# EAGLE library part MOLEX_MINIFIT-8 (library molex_mini-fit)
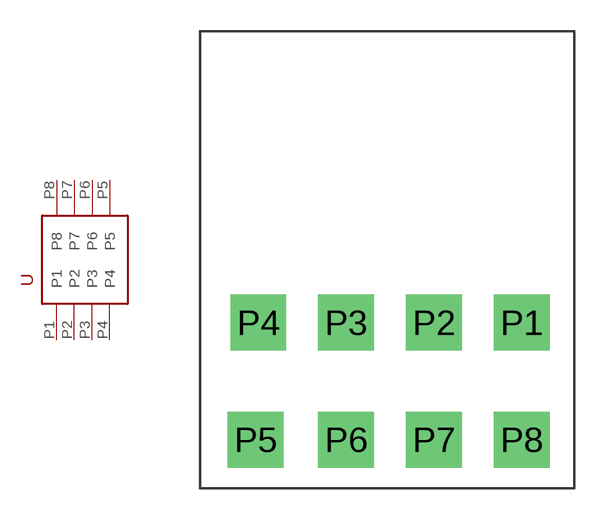
[diagram p8: symbol with the pads of MOLEX_MINIFIT-8; footprint MOLEX_MINIFIT-8]

Designator prefix -

## MOLEX_MINIFIT-8  [MOLEX_MINIFIT-8]
P1  P1
P2  P2
P3  P3
P4  P4
P5  P5
P6  P6
P7  P7
P8  P8

## Footprint MOLEX_MINIFIT-8 (pad centres in mm)
drill 1.778 pad 2.54 square: P1 6.35,2.794; P2 2.159,2.794; P3 -2.032,2.794; P4 -6.223,2.794; P5 -6.35,-2.794; P6 -2.032,-2.794; P7 2.159,-2.794; P8 6.35,-2.794